# Altium footprint library EISI.PcbLib: 695 footprints (part 28 of 44)
Each footprint in its own frame and in the unit in brackets; x right, y up, seen from the top. Pads: shape width x height; smd on the part's side, far side on the other; paste and mask are expansions set on the pad; w line width, h text height; cw(c..) or ccw(c..) is an arc to the next point about the centre after c.
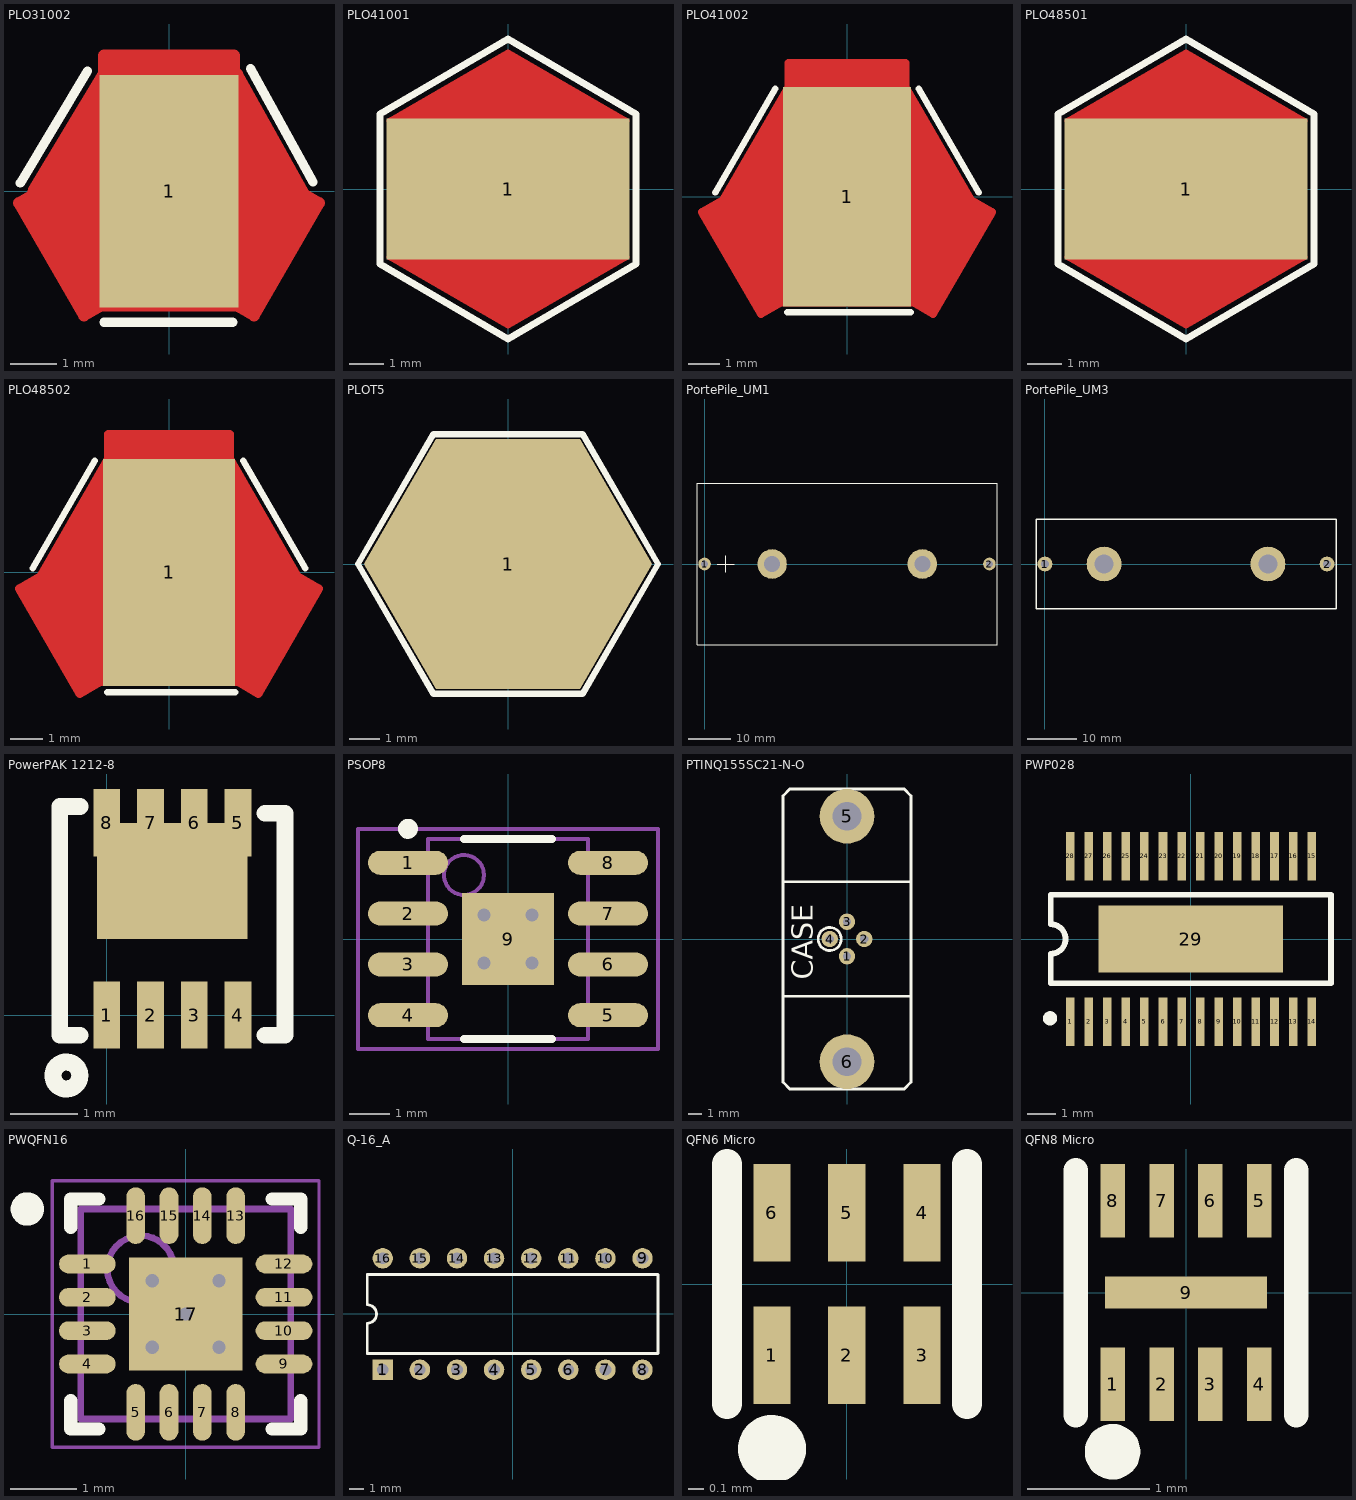
[diagram p27: the footprints below, top view; thin cyan lines are the x and y axes]

## PLO31002 [mm]
pads (1):
  rect 3x5 smd: 1(0,0)
TopLayer:
  lines w0.254: -2.921,0 -1.397,2.54 -1.397,2.921 1.397,2.921 1.397,2.54 ; -2.898,-0.06 -3.228,-0.251 -1.831,-2.67 -1.473,-2.464 1.448,-2.464 ; 1.46,2.53 2.898,-0.06 3.228,-0.251 1.831,-2.67 1.501,-2.48
  lines w0.61: -2.21,0.406 -2.134,-1.27 ; -1.651,-1.803 -1.651,1.194 ; -1.295,-2.007 -1.651,-2.261 -2.794,-0.305 -1.27,2.108 ; -1.118,2.362 -1.118,2.616 1.041,2.616 ; 1.219,2.337 2.642,-0.229 2.743,-0.305 1.753,-2.311 1.676,-2.261 1.499,1.194 ; 1.93,0.406 2.032,-1.295 ; 2.083,-0.381 2.794,-0.356
TopOverlay:
  lines w0.2: -3.2,0.178 -1.753,2.591 -3.2,0.178 ; -1.397,-2.819 1.372,-2.819 -1.397,-2.819 ; 1.753,2.642 3.099,0.203 1.753,2.642
TopSolder:
  lines w0.254: -2.921,0 -1.397,2.54 -1.397,2.921 1.397,2.921 1.397,2.54 ; -2.898,-0.06 -3.228,-0.251 -1.831,-2.67 -1.473,-2.464 1.448,-2.464 ; 1.46,2.53 2.898,-0.06 3.228,-0.251 1.831,-2.67 1.501,-2.48
  lines w0.61: -2.21,0.406 -2.134,-1.27 ; -1.651,-1.803 -1.651,1.194 ; -1.295,-2.007 -1.651,-2.261 -2.794,-0.305 -1.27,2.108 ; -1.118,2.362 -1.118,2.616 1.041,2.616 ; 1.219,2.337 2.642,-0.229 2.743,-0.305 1.753,-2.311 1.676,-2.261 1.499,1.194 ; 1.93,0.406 2.032,-1.295 ; 2.083,-0.381 2.794,-0.356

## PLO41001 [mil]
pads (1):
  rect 275x160 smd: 1(0,0)
TopLayer:
  lines w7.87: -133.5,-77 0,-154 133.5,-77 ; -133.5,77 0,154 133.5,77
  lines w30: -121,-68.5 -1.5,-137 112,-71.5 ; -119.5,69 0.5,136.5 113.5,72 ; -73.5,-87.5 70,-87.5 ; -67.5,83 62.5,84 ; -50.01,104.49 44.99,109.49 ; -39,-107.5 29,-109
TopOverlay:
  lines w7.87: -145,-85 -145,85 0,170 145,85 145,-85 0,-170 -145,-85
TopSolder:
  lines w7.87: -133.5,-77 -133.5,77 0,154 133.5,77 133.5,-77 0,-154 -133.5,-77
  lines w30: -121,-68.5 -1.5,-137 112,-71.5 ; -119.5,69 0.5,136.5 113.5,72 ; -73.5,-87.5 70,-87.5 ; -67.5,83 62.5,84 ; -39,-107.5 29,-109 ; -36.5,109.5 36,104 -36.5,109.5

## PLO41002 [mil]
pads (1):
  rect 160x275 smd: 1(0,0)
TopLayer:
  lines w10: -181.5,-19.5 -108,-147 -83,-132.5 58.5,-132.5 83.5,-132.5 108,-147 181.5,-19.5 155.5,-4.5 73.5,137.5 73.5,167.5 -73.5,167.5 -73.5,137.5 -155.5,-4.5 -181.5,-19.5
  lines w30: -160.5,-23 -102,-130.5 ; -144,-17 -65,119.5 ; -134.5,-22.5 -87.5,-99 ; -107,-120 94,-120 ; -83,-50.5 -79,9 ; -76.5,-79.5 -112.5,-16.5 -67.5,58.5 ; -57,140 -57,156.5 ; -49,150 44,150 ; 59.5,138.5 59.5,157.5 ; 64.5,124.5 145.5,-15.5 ; 68.5,66.5 127.5,-29 84,-106.5 ; 74,20 105,-34 ; 83,-14 90,-81.5 ; 101.5,-130 161,-23
TopOverlay:
  lines w7.87: -165,5 -90,135 -165,5 ; -75,-145 80,-145 -75,-145 ; 90,135 165,5 90,135
TopSolder:
  lines w4: 110,-153 82,-137 -82,-137 -110,-153 -188,-18 -159,-1 -78,139 -78,172 78,172 78,139 160,-1 188,-18 110,-152
  lines w10: -181.5,-19.5 -155.5,-4.5 -73.5,137.5 -73.5,167.5 73.5,167.5 73.5,137.5 155.5,-4.5 181.5,-19.5 108,-147 83.5,-132.5 58.5,-132.5 -83,-132.5 -108,-147 -181.5,-19.5
  lines w30: -160.5,-23 -102,-130.5 ; -144,-17 -65,119.5 ; -134.5,-22.5 -87.5,-99 ; -107,-120 94,-120 ; -83,-50.5 -79,9 ; -76.5,-79.5 -112.5,-16.5 -67.5,58.5 ; -57,140 -57,156.5 ; -49,150 44,150 ; 59.5,138.5 59.5,157.5 ; 64.5,124.5 145.5,-15.5 ; 68.5,66.5 127.5,-29 84,-106.5 ; 74,20 105,-34 ; 83,-14 90,-81.5 ; 101.5,-130 161,-23

## PLO48501 [mil]
pads (1):
  rect 275x160 smd: 1(0,0)
TopLayer:
  lines w7.87: -133.5,-77 0,-154 133.5,-77 ; -133.5,77 0,154 133.5,77
  lines w30: -121,-68.5 -1.5,-137 112,-71.5 ; -119.5,69 0.5,136.5 113.5,72 ; -73.5,-87.5 70,-87.5 ; -67.5,83 62.5,84 ; -50.01,104.49 44.99,109.49 ; -39,-107.5 29,-109
TopOverlay:
  lines w7.87: -145,-85 -145,85 0,170 145,85 145,-85 0,-170 -145,-85
TopSolder:
  lines w7.87: -133.5,-77 -133.5,77 0,154 133.5,77 133.5,-77 0,-154 -133.5,-77
  lines w30: -121,-68.5 -1.5,-137 112,-71.5 ; -119.5,69 0.5,136.5 113.5,72 ; -73.5,-87.5 70,-87.5 ; -67.5,83 62.5,84 ; -39,-107.5 29,-109 ; -36.5,109.5 36,104 -36.5,109.5

## PLO48502 [mil]
pads (1):
  rect 160x275 smd: 1(0,0)
TopLayer:
  lines w10: -181.5,-19.5 -108,-147 -83,-132.5 58.5,-132.5 83.5,-132.5 108,-147 181.5,-19.5 155.5,-4.5 73.5,137.5 73.5,167.5 -73.5,167.5 -73.5,137.5 -155.5,-4.5 -181.5,-19.5
  lines w30: -160.5,-23 -102,-130.5 ; -144,-17 -65,119.5 ; -134.5,-22.5 -87.5,-99 ; -107,-120 94,-120 ; -83,-50.5 -79,9 ; -76.5,-79.5 -112.5,-16.5 -67.5,58.5 ; -57,140 -57,156.5 ; -49,150 44,150 ; 59.5,138.5 59.5,157.5 ; 64.5,124.5 145.5,-15.5 ; 68.5,66.5 127.5,-29 84,-106.5 ; 74,20 105,-34 ; 83,-14 90,-81.5 ; 101.5,-130 161,-23
TopOverlay:
  lines w7.87: -165,5 -90,135 -165,5 ; -75,-145 80,-145 -75,-145 ; 90,135 165,5 90,135
TopSolder:
  lines w10: -181.5,-19.5 -155.5,-4.5 -73.5,137.5 -73.5,167.5 73.5,167.5 73.5,137.5 155.5,-4.5 181.5,-19.5 108,-147 83.5,-132.5 58.5,-132.5 -83,-132.5 -108,-147 -181.5,-19.5
  lines w30: -160.5,-23 -102,-130.5 ; -144,-17 -65,119.5 ; -134.5,-22.5 -87.5,-99 ; -107,-120 94,-120 ; -83,-50.5 -79,9 ; -76.5,-79.5 -112.5,-16.5 -67.5,58.5 ; -57,140 -57,156.5 ; -49,150 44,150 ; 59.5,138.5 59.5,157.5 ; 64.5,124.5 145.5,-15.5 ; 68.5,66.5 127.5,-29 84,-106.5 ; 74,20 105,-34 ; 83,-14 90,-81.5 ; 101.5,-130 161,-23

## PLOT5 [mil]
pads (6):
  rect 185x322 smd: 1(0,0)
  rect 185x322 smd rot 120: ""(0,0)
  rect 185x322 smd rot 60: ""(0,0)
  rect 185x322 on Top Solder rot 120: ""(0,0)
  rect 185x322 on Top Solder: ""(0,0)
  rect 185x322 on Top Solder rot 60: ""(0,0)
TopOverlay:
  lines w7.87: -193,0 -96,-167 96,-167 193,0 96,167 -96,167 -193,0

## PortePile_UM1 [mm] "Porte piles LR20"
pads (4):
  round 3 hole 1.6: 1(0,0) 2(67.5,0)
  round 7 hole 3.8: ""(16,0) ""(51.6,0)
TopOverlay:
  lines w0.254: 3,0 7,0 ; 5,-2 5,2 ; -1.8,-19.1 -1.8,19.1 69.3,19.1 69.3,-19.1 -1.8,-19.1

## PortePile_UM3 [mm] "Porte pile LR6"
pads (4):
  round 3 hole 1.6: 1(0,0) 2(56.8,0)
  round 7 hole 3.8: ""(11.9,0) ""(44.9,0)
TopOverlay:
  lines w0.254: -1.8,-9 -1.8,9 58.6,9 58.6,-9 -1.8,-9

## PowerPAK 1212-8 [mm] "PowerPAK 8 pin 3.3mm x 3.3mm"
height 1
pads (9):
  rect 0.4x1 smd: 1(0,0) 2(0.65,0) 3(1.3,0) 4(1.95,0) 5(1.95,2.86) 6(1.3,2.86) 7(0.65,2.86) 8(0,2.86)
  rect 2.235x1.725 smd: ""(0.975,1.99)
TopOverlay:
  circle w0.254: c-0.6,-0.9 r0.2
  lines w0.25: -0.4,-0.3 -0.7,-0.3 -0.7,3.1 -0.4,3.1 ; 2.35,-0.3 2.65,-0.3 2.65,3 2.35,3

## PSOP8 [mm] "SOIC, 8-Leads, Body 4.9x3.9mm, Pitch 1.27mm, Exposed Pad, IPC Medium Density"
height 1.68
pads (9):
  oval 2x0.6 smd: 1(-2.5,1.905) 2(-2.5,0.635) 3(-2.5,-0.635) 4(-2.5,-1.905) 5(2.5,-1.905) 6(2.5,-0.635) 7(2.5,0.635) 8(2.5,1.905)
  rect 2.29x2.29 smd: 9(0,0)
via -0.6,0.6 diameter 0.66 hole 0.33
via 0.6,0.6 diameter 0.66 hole 0.33
via 0.6,-0.6 diameter 0.66 hole 0.33
via -0.6,-0.6 diameter 0.66 hole 0.33
TopOverlay:
  circle w0.25: c-2.5,2.755 r0.125
  lines w0.2: -1.1,-2.5 1.1,-2.5 ; -1.1,2.5 1.1,2.5
Mechanical13:
  circle w0.1: c-1.1,1.6 r0.5
  lines w0.1: -2,-2.5 -2,2.5 2,2.5 2,-2.5 -2,-2.5
Mechanical15:
  lines w0.1: -0.5,0 0.5,0 ; 0,-0.5 0,0.5 ; -3.75,-2.75 -3.75,2.75 3.75,2.75 3.75,-2.75 -3.75,-2.75
3D body: height 1.68, standoff 0.03, extent -2,-2.5 2,2.5

## PTINQ155SC21-N-O [mm] "PTINQ155SC21-N-O"
height 15.7
pads (6):
  round 1.2 hole 0.6: 1(0,-1.27) 2(1.27,0) 3(0,1.27) 4(-1.27,0)
  round 4 hole 2.1: 5(0,9) 6(0,-9)
TopOverlay:
  circle w0.2: c-1.27,0 r0.85
  lines w0.2: -4.7,-4.2 4.7,-4.2 ; -4.7,4.2 4.7,4.2 ; -4.7,-10.5 -4.2,-11 4.2,-11 4.7,-10.5 4.7,10.5 4.2,11 -4.2,11 -4.7,10.5 -4.7,-10.5
  text "CASE" at -2.5,-3 h1.52

## PWP028 [mm] "PSOP28 Leads; PowerPAD; Body Width 4.4 mm; Pitch 0.65 mm"
height 1.2
pads (29):
  rect 0.3x1.7 smd: 1(-4.225,-2.9) 2(-3.575,-2.9) 3(-2.925,-2.9) 4(-2.275,-2.9) 5(-1.625,-2.9) 6(-0.975,-2.9) 7(-0.325,-2.9) 8(0.325,-2.9) 9(0.975,-2.9) 10(1.625,-2.9) 11(2.275,-2.9) 12(2.925,-2.9) 13(3.575,-2.9) 14(4.225,-2.9) 15(4.225,2.9) 16(3.575,2.9) 17(2.925,2.9) 18(2.275,2.9) 19(1.625,2.9) 20(0.975,2.9) 21(0.325,2.9) 22(-0.325,2.9) 23(-0.975,2.9) 24(-1.625,2.9) 25(-2.275,2.9) 26(-2.925,2.9) 27(-3.575,2.9) 28(-4.225,2.9)
  rect 6.46x2.35 smd: 29(0,0)
TopOverlay:
  circle w0.25: c-4.925,-2.775 r0.125
  lines w0.2: -4.9,-1.55 -4.9,-0.517 ccw(c-4.9,0) -4.9,0.517 -4.9,1.55 4.9,1.55 4.9,-1.55 -4.9,-1.55

## PWQFN16 [mm] "QFN, 16-Leads, Body 3x3mm, Pitch 0.5mm, Thermal Pad 1.7x1.7mm, TI Recommended"
height 1
pads (17):
  oval 0.85x0.28 smd paste-0.025 mask+0.07: 1(-1.475,0.75) 2(-1.475,0.25) 3(-1.475,-0.25) 4(-1.475,-0.75) 9(1.475,-0.75) 10(1.475,-0.25) 11(1.475,0.25) 12(1.475,0.75)
  oval 0.28x0.85 smd paste-0.025 mask+0.07: 5(-0.75,-1.475) 6(-0.25,-1.475) 7(0.25,-1.475) 8(0.75,-1.475) 13(0.75,1.475) 14(0.25,1.475) 15(-0.25,1.475) 16(-0.75,1.475)
  rect 1.7x1.7 smd paste-0.85 mask+0.07: 17(0,0)
via -0.5,0.5 diameter 0.5 hole 0.2
via -0.5,-0.5 diameter 0.5 hole 0.2
via 0.5,-0.5 diameter 0.5 hole 0.2
via 0.5,0.5 diameter 0.5 hole 0.2
via 0,0 diameter 0.5 hole 0.2
TopOverlay:
  circle w0.25: c-2.375,1.575 r0.125
  lines w0.2: -1.725,-1.3 -1.725,-1.725 -1.3,-1.725 ; -1.725,1.3 -1.725,1.725 -1.3,1.725 ; 1.3,-1.725 1.725,-1.725 1.725,-1.3 ; 1.3,1.725 1.725,1.725 1.725,1.3
TopPaste:
  region: -0.1,0.1 -0.1,0.8 -0.8,0.8 -0.8,0.1
  region: -0.1,-0.1 -0.8,-0.1 -0.8,-0.8 -0.1,-0.8
  region: 0.1,-0.1 0.1,-0.8 0.8,-0.8 0.8,-0.1
  rectangle: 0.1,0.1 0.8,0.8
Mechanical13:
  circle w0.1: c-0.675,0.675 r0.5
  lines w0.1: -1.575,-1.575 -1.575,1.575 1.575,1.575 1.575,-1.575 -1.575,-1.575
Mechanical15:
  lines w0.05: -2,-2 -2,2 2,2 2,-2 -2,-2
  lines w0.1: -0.5,0 0.5,0 ; 0,-0.5 0,0.5
3D body: height 1, standoff 0, extent -1.575,-1.575 1.575,1.575

## Q-16_A [mm] "DIP; 16 Leads; Row Spacing 7.62 mm; Pitch 2.54 mm"
height 5.08
pads (16):
  rect 1.4x1.4 hole 0.8: 1(-8.89,-3.81)
  round 1.4 hole 0.8: 2(-6.35,-3.81) 3(-3.81,-3.81) 4(-1.27,-3.81) 5(1.27,-3.81) 6(3.81,-3.81) 7(6.35,-3.81) 8(8.89,-3.81) 9(8.89,3.81) 10(6.35,3.81) 11(3.81,3.81) 12(1.27,3.81) 13(-1.27,3.81) 14(-3.81,3.81) 15(-6.35,3.81) 16(-8.89,3.81)
TopOverlay:
  lines w0.2: -9.95,-2.7 9.95,-2.7 9.95,2.7 -9.95,2.7 -9.95,0.635 cw(c-9.95,0) -9.95,-0.635 -9.95,-2.7

## QFN6 Micro [mm] "QFN6 Micro 1.45 x 1mm pitch 0.5mm"
height 0.55
pads (6):
  rect 0.25x0.65 smd paste-0.01: 1(-0.5,-0.475) 2(0,-0.475) 3(0.5,-0.475) 4(0.5,0.475) 5(0,0.475) 6(-0.5,0.475)
TopOverlay:
  circle w0.254: c-0.5,-1.1 r0.1
  lines w0.2: -0.8,-0.8 -0.8,0.8 ; 0.8,-0.8 0.8,0.8

## QFN8 Micro [mm] "QFN8 Micro 1.5 x 1.7mm pitch 0.4mm"
pads (9):
  rect 0.2x0.6 smd paste-0.01: 1(-0.6,-0.75) 2(-0.2,-0.75) 3(0.2,-0.75) 4(0.6,-0.75) 5(0.6,0.75) 6(0.2,0.75) 7(-0.2,0.75) 8(-0.6,0.75)
  rect 1.32x0.26 smd paste-0.05: 9(0,0)
TopOverlay:
  circle w0.254: c-0.6,-1.3 r0.1
  lines w0.2: -0.9,-1 -0.9,1 ; 0.9,-1 0.9,1